# EAGLE library part 1775051-1 (library USB connector)
CONN RCPT USB2.0 MINI AB SMD R/A Manufacturer's datasheet <https://www.te.com/commerce/DocumentDelivery/DDEController?Action=srchrtrv&DocNm=1775051&DocType=Customer+Drawing&DocLang=English>
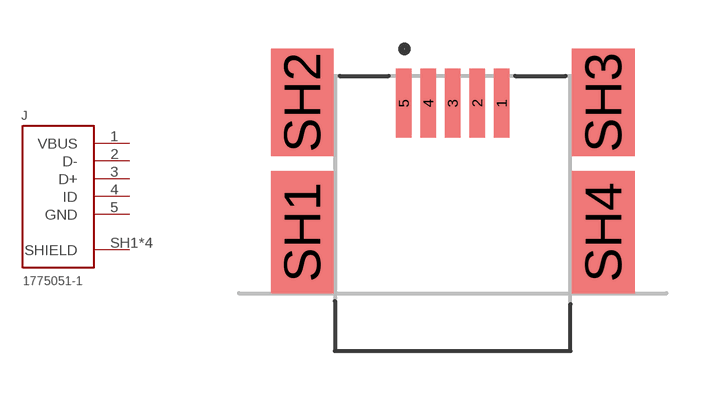
[diagram p2: symbol with the pads of 1775051-1; footprint 1775051-1]

Designator prefix J

## 1775051-1 (CREATED_BY: PCBLayout.com; DIGIKEY_PARTNO: A121533TR-ND; MANUFACTURER: TE Connectivity AMP Connectors; MPN: 1775051-1)  [1775051-1]
1  VBUS  pas
2  D-  pas
3  D+  pas
4  ID  pas
5  GND  pas
SH1  SHIELD  pwr
SH2  SHIELD  pwr
SH3  SHIELD  pwr
SH4  SHIELD  pwr

## Footprint 1775051-1 (pad centres in mm)
smd 0.5 x 2.25: 1 1.6,3.112; 2 0.8,3.112; 3 0,3.112; 4 -0.8,3.112; 5 -1.6,3.112
smd 2.05 x 4: SH1 -4.925,-1.113; SH4 4.925,-1.113
smd 2.05 x 3.5: SH2 -4.925,3.138; SH3 4.925,3.138